# Altium footprint library SOD-923.PcbLib: 1 footprints
Each footprint in its own frame and in the unit in brackets; x right, y up, seen from the top. Pads: shape width x height; smd on the part's side, far side on the other; paste and mask are expansions set on the pad; w line width, h text height; cw(c..) or ccw(c..) is an arc to the next point about the centre after c.
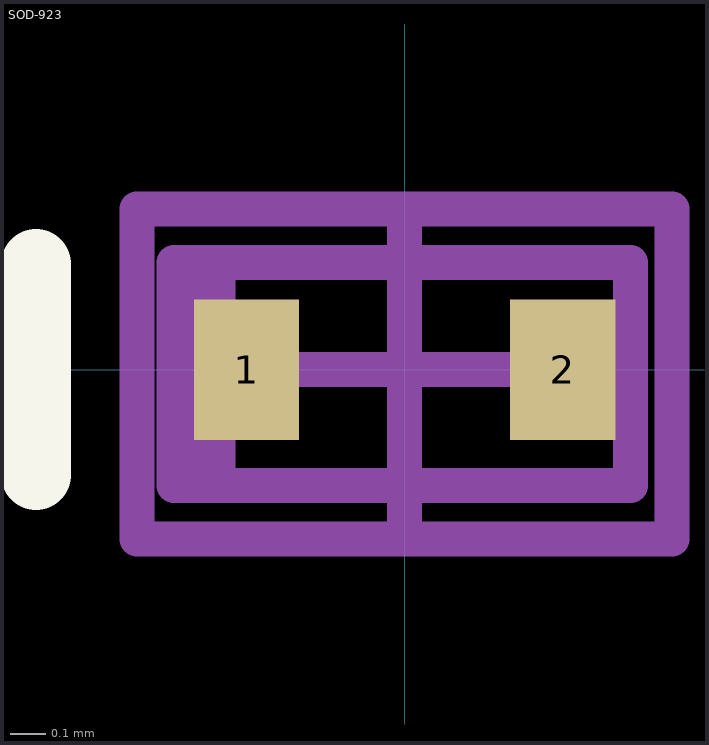
[diagram p0: the footprint, top view; thin cyan lines are the x and y axes]

## SOD-923 [mm]
height 0.65
pads (2):
  rect 0.3x0.4 smd: 1(-0.45,0) 2(0.45,0)
Top Overlay:
  lines w0.2: -1.05,-0.3 -1.05,0.3
Mechanical 13:
  rectangle: -0.656,-0.33 -0.482,0.305
  lines w0.1: -0.656,-0.33 -0.656,0.305 0.644,0.305 0.644,-0.33 -0.656,-0.33
Mechanical 15:
  lines w0.1: -0.45,0 0.45,0 ; 0,-0.45 0,0.45 ; -0.762,-0.483 0.762,-0.483 0.762,0.457 -0.762,0.457 -0.762,-0.483
3D body: height 0.4, standoff 0, extent -0.5,-0.3 0.5,0.3